# Altium footprint library Sensors_Board_PCB.PcbLib: 25 footprints (part 2 of 2)
Each footprint in its own frame and in the unit in brackets; x right, y up, seen from the top. Pads: shape width x height; smd on the part's side, far side on the other; paste and mask are expansions set on the pad; w line width, h text height; cw(c..) or ccw(c..) is an arc to the next point about the centre after c.
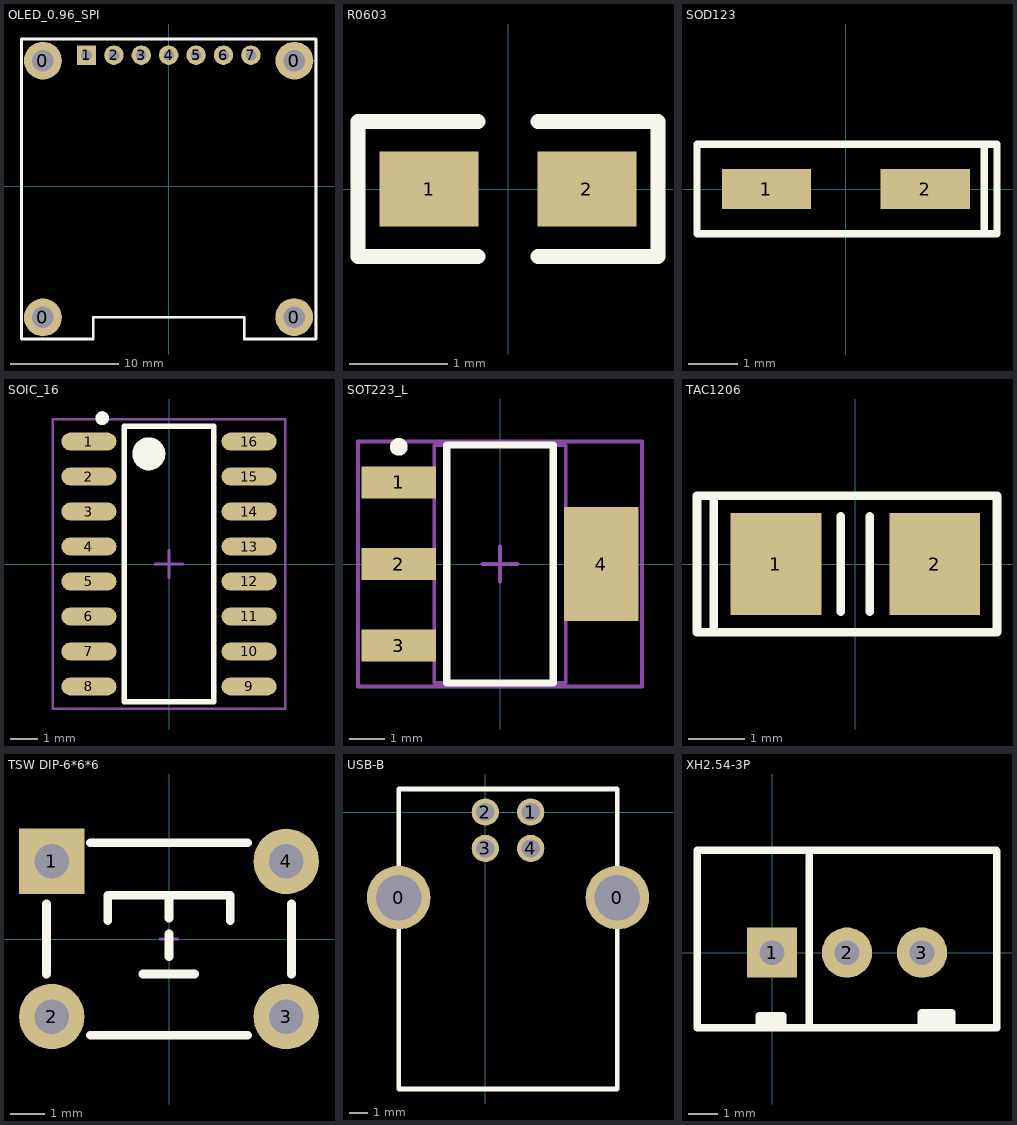
[diagram p1: the footprints below, top view; thin cyan lines are the x and y axes]

## OLED_0.96_SPI [mm] "GND、VCC、SCL、SDA"
height 4.06
pads (11):
  round 3.5 hole 2 mask+0.102: 0(-11.659,-12.154) 0(-11.659,11.646) 0(11.633,-12.128) 0(11.659,11.646)
  rect 1.8x1.8 hole 1 mask+0.102: 1(-7.62,12.154)
  round 1.8 hole 1 mask+0.102: 2(-5.08,12.154) 3(-2.54,12.154) 4(0,12.154) 5(2.54,12.154) 6(5.08,12.154) 7(7.62,12.154)
Top Overlay:
  lines w0.127: -7,-12.146 -6.982,-12.128 ; 7,-12.139 7.01,-12.128
  lines w0.254: -7,-12.146 -7,-14.146 -13.65,-14.146 -13.65,13.654 13.64,13.654 ; -6.982,-12.128 4.982,-12.128 7.01,-12.128 ; 7,-12.139 7,-14.146 13.65,-14.146 13.65,13.654
Mechanical 25:
  lines w0.2: -13.65,-14.146 -7,-14.146 -7,-12.146 cw(c-6.958,-12.189) -6.958,-12.128 7.01,-12.128 ccw(c7.036,-12.154) 7,-12.154 7,-14.146 13.65,-14.146 cw(c13.675,-14.121) 13.64,-14.121 13.64,13.654 -13.65,13.654 -13.65,-14.146
  text ".designator" at -2.758,-0.231 h0.76

## R0603 [mm] "Chip Resistor, 2-Leads, Body 1.6x0.8mm, IPC Medium Density"
height 0.89
pads (2):
  rect 1x0.762 smd: 1(-0.8,0) 2(0.8,0)
Top Overlay:
  lines w0.152: -0.304,-0.686 -1.52,-0.686 -1.52,0.686 -0.304,0.686 ; 0.304,-0.686 1.52,-0.686 1.52,0.686 0.304,0.686
Mechanical 1:
  text ".Designator" at -1.905,-0.254 h0.8
3D body "RESC1608(0603).STEP": height 0.38, standoff 0, extent -0.8,-0.4 0.8,0.4

## SOD123 [mm]
height 1.75
pads (2):
  rect 1.8x0.8 smd: 1(-1.6,0) 2(1.6,0)
Top Overlay:
  lines w0.15: 2.794,-0.889 2.794,0.889 ; -3,-0.9 -3,0.9 3.048,0.9 3.048,-0.9 -3,-0.9
Mechanical 1:
  text ".Designator" at -2.413,-0.254 h0.8
3D body "SW3DPS-SOD123-DEFAULT.STEP": height 1.27, standoff 0, extent -1.85,-0.8 1.85,0.8

## SOIC_16 [mm]
height 1.75
pads (16):
  oval 2x0.65 smd: 1(-2.906,4.445) 2(-2.906,3.175) 3(-2.906,1.905) 4(-2.906,0.635) 5(-2.906,-0.635) 6(-2.906,-1.905) 7(-2.906,-3.175) 8(-2.906,-4.445) 9(2.906,-4.445) 10(2.906,-3.175) 11(2.906,-1.905) 12(2.906,-0.635) 13(2.906,0.635) 14(2.906,1.905) 15(2.906,3.175) 16(2.906,4.445)
Top Overlay:
  circle w0.25: c-2.425,5.295 r0.125
  circle w0.6: c-0.735,4 r0.3
  lines w0.2: -1.626,-5 -1.626,5 1.626,5 1.626,-5 -1.626,-5
Mechanical 15:
  lines w0.1: -0.5,0 0.5,0 ; 0,-0.5 0,0.5 ; -4.216,-5.25 -4.216,5.25 4.216,5.25 4.216,-5.25 -4.216,-5.25
3D body "SOIC_16.STEP": height 1.48, standoff -0.01, extent -3.055,-5 3.056,5

## SOT223_L [mm] "SOT223, 4-Leads, Body 6.5x3.5mm, Pitch 2.3mm, Lead Span 7mm, IPC High Density"
height 1.7
pads (4):
  rect 2.1x0.9 smd: 1(-2.85,2.3) 2(-2.85,0) 3(-2.85,-2.3)
  rect 2.1x3.2 smd: 4(2.85,0)
Top Overlay:
  circle w0.25: c-2.85,3.3 r0.125
  lines w0.2: -1.5,-3.35 -1.5,3.35 1.5,3.35 1.5,-3.35 -1.5,-3.35
Mechanical 13:
  lines w0.1: -1.85,-3.35 -1.85,3.35 1.85,3.35 1.85,-3.35 -1.85,-3.35
Mechanical 15:
  lines w0.1: -0.5,0 0.5,0 ; 0,-0.5 0,0.5 ; -4,-3.45 -4,3.45 4,3.45 4,-3.45 -4,-3.45
3D body: height 1.7, standoff 0, extent -1.85,-3.35 1.85,3.35

## TAC1206 [mm]
height 1.75
pads (2):
  rect 1.6x1.8 smd: 1(-1.4,0) 2(1.4,0)
Top Overlay:
  lines w0.15: -2.5,-1.2 1.2,-1.2 2.5,-1.2 2.5,1.2 -1.1,1.2 -2.5,1.2 ; -2.5,-1.2 -2.5,1.2 ; -2.5,-1.2 -2.794,-1.2 -2.794,1.2 -2.5,1.2
  lines w0.152: -0.254,-0.838 -0.254,0.838 ; 0.254,-0.838 0.254,0.838
Mechanical 1:
  text ".Designator" at -2.751,-0.254 h0.8
3D body "CAP-A.STEP": height 1.77, standoff 0.17, extent -1.562,-0.813 1.612,0.787

## TSW DIP-6*6*6 [mm] "6*6*6mm"
height 1.75
pads (4):
  rect 1.9x1.9 hole 1: 1(-3.4,2.25)
  round 1.9 hole 1: 2(-3.4,-2.25) 3(3.4,-2.25) 4(3.4,2.25)
Top Overlay:
  lines w0.254: -3.556,-1.016 -3.556,1.016 ; -2.286,-2.794 2.286,-2.794 ; -2.286,2.794 2.286,2.794 ; -1.778,0.533 -1.778,1.27 1.778,1.27 1.778,0.533 ; -0.762,-1.016 0.737,-1.016 ; 0,-0.508 0,0.152 ; 0,0.61 0,1.27 ; 3.556,-1.016 3.556,1.016
Bottom Overlay:
  lines w0.254: -2.286,-2.286 2.286,-2.286
Mechanical 15:
  lines w0.076: -0.254,0 0.254,0 ; 0,-0.254 0,0.254
3D body "TSW DIP-6x6x6.STEP": height 5.95, standoff -3.45, extent -4.106,-3 4.106,3

## USB-B [mm]
pads (6):
  round 3.5 hole 2.5: 0(-4.77,-4.71) 0(7.27,-4.71)
  round 1.5 hole 1: 1(2.5,0) 2(0,0) 3(0,-2) 4(2.5,-2)
Top Overlay:
  lines w0.254: -4.77,-15.24 7.27,-15.24 7.27,-4.71 7.27,1.27 -4.445,1.27 -4.77,1.27 -4.77,-4.71 -4.77,-15.24

## XH2.54-3P [mm]
height 1.75
pads (3):
  rect 1.7x1.7 hole 0.83: 1(0,0)
  round 1.7 hole 0.83: 2(2.54,0) 3(5.08,0)
Top Overlay:
  lines w0.254: -0.44,-2.44 -0.44,-2.14 0.36,-2.14 0.36,-2.44 ; -0.39,-2.29 0.36,-2.29 ; 1.26,-2.39 1.26,3.46 ; 5.207,-2.286 5.969,-2.286 6.096,-2.413 6.096,-2.032 5.08,-2.032 5.06,-2.052 5.06,-2.54 ; 5.06,-2.54 7.62,-2.54 7.62,3.429 7.589,3.46 5.06,3.46 -2.54,3.46 -2.54,-2.54 5.06,-2.54
Mechanical 1:
  text ".Designator" at -0.127,-0.254 h0.8
3D body "XH2.54-3P.STEP": height 7, standoff -3.5, extent -2.41,-2.35 7.49,3.4